# Altium schematic symbol library Crystals.SchLib: 1 symbol
Pins are listed as number, name and electrical type; pins without a type are passive.

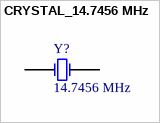
[diagram p0: symbol CRYSTAL_14.7456 MHz]

## CRYSTAL_14.7456 MHz
designator Y?, comment 14.7456 MHz
14.7456 МГц имп. HC-49SM, Кварцевый резонатор; Published: 8-Jun-2000; LatestRevisionDate: 17-Jul-2002; LatestRevisionNote: Re-released for DXP Platform.; PackageReference: R38; Publisher: Altium Limited; PackageDescription: Crystal, Thru-Hole; 2 Leads; Body 3.1 x 8.2 mm (Dia.xH)
footprint CRYSTAL_HC-49S
pins: 1 OSC1, 2 OSC2